# Altium schematic symbol library IC-DRIVERS.SchLib: 14 symbols
Pins are listed as number, name and electrical type; pins without a type are passive.

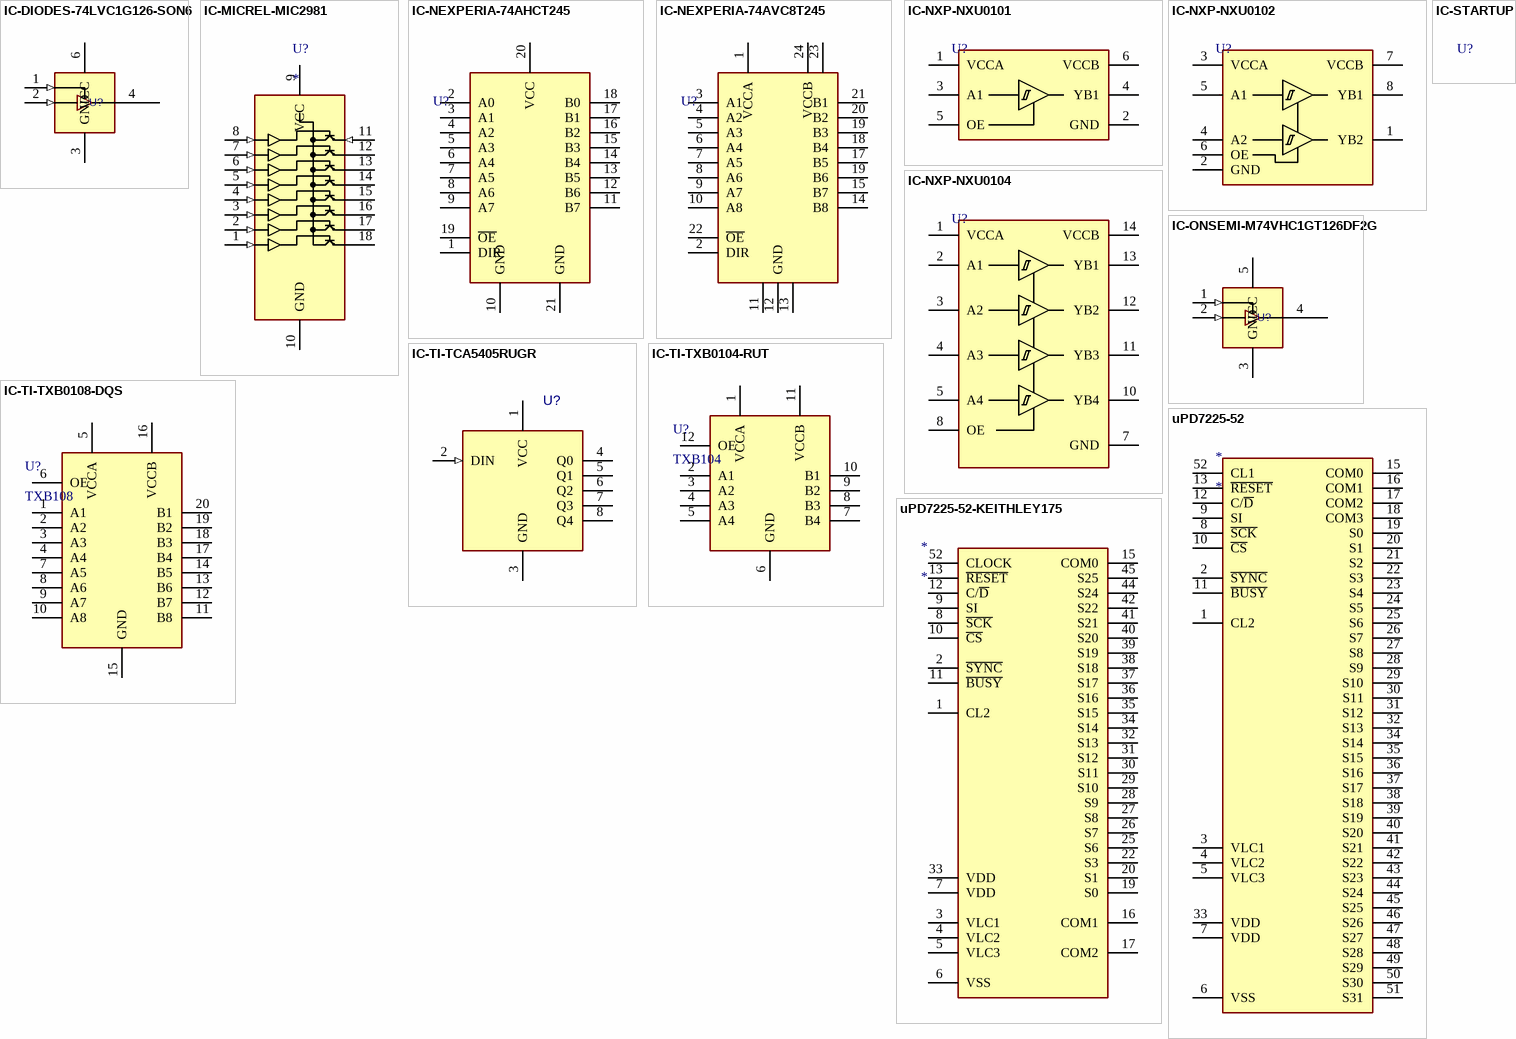
[diagram p0: symbols IC-DIODES-74LVC1G126-SON6 to uPD7225-52-KEITHLEY175]

## IC-DIODES-74LVC1G126-SON6
designator U?, comment 74LVC1G126  (value not drawn)
MPN: C163712; Footprint: Package_TO_SOT_SMD:SOT-23-5
footprint SOT-23-5
pins: 1 (in), 2 (in), 3 GND (power), 4 (hiz), 6 VCC (power)

## IC-MICREL-MIC2981
designator U?
OCTAL HIGH SIDE DRIVER
pins: 1 ~{OE} (in), 2 D0 (in), 3 D1 (in), 4 D2 (in), 5 D3 (in), 6 D4 (in), 7 D5 (in), 8 D6 (in), 9 VCC, 10 GND, 11 LE (in), 12 Q7 (hiz), 13 Q6 (hiz), 14 Q5 (hiz), 15 Q4 (hiz), 16 Q3 (hiz), 17 Q2 (hiz), 18 Q1 (hiz)

## IC-NEXPERIA-74AHCT245
designator U?, comment 74AHCT245  (value not drawn)
IC,BUS BUFFER,74245, QQFN420X250; Manufacturer 1: NEXPERIA; Manufacturer Part Number 1: 74AHCT245BQ,115; LCSC: C554611
footprint QFN50P450X250-20TH300X100
pins: 1 DIR, 2 A0, 3 A1, 4 A2, 5 A3, 6 A4, 7 A5, 8 A6, 9 A7, 10 GND, 11 B7, 12 B6, 13 B5, 14 B4, 15 B3, 16 B2, 17 B1, 18 B0, 19 ~{OE}, 20 VCC, 21 GND

## IC-NEXPERIA-74AVC8T245
designator U?  (value not drawn)
pins: 1 VCCA, 2 DIR, 3 A1, 4 A2, 5 A3, 6 A4, 7 A5, 8 A6, 9 A7, 10 A8, 11 GND, 12 GND, 13 GND, 14 B8, 15 B7, 17 B5, 18 B4, 19 B6, 19 B3, 20 B2, 21 B1, 22 ~{OE}, 23 VCCB, 24 VCCB

## IC-NXP-NXU0101
designator U?  (value not drawn)
pins: 1 VCCA, 2 GND, 3 A1, 4 YB1, 5 OE, 6 VCCB

## IC-NXP-NXU0102
designator U?  (value not drawn)
pins: 1 YB2, 2 GND, 3 VCCA, 4 A2, 5 A1, 6 OE, 7 VCCB, 8 YB1

## IC-NXP-NXU0104
designator U?  (value not drawn)
pins: 1 VCCA, 2 A1, 3 A2, 4 A3, 5 A4, 7 GND, 8 OE, 10 YB4, 11 YB3, 12 YB2, 13 YB1, 14 VCCB

## IC-ONSEMI-M74VHC1GT126DF2G
designator U?, comment 74LVC1GT126  (value not drawn)
IC,BUFFER WITH OE, ONSEMI M74VHC1GT126DF2G; LCSC: C233496; Manufacturer 1: ONSEMI; Manufacturer Part Number 1: M74VHC1GT126DF2G
footprint SOT353 (SOT353 SC70-5)
pins: 1 (in), 2 (in), 3 GND (power), 4 (hiz), 5 VCC (power)

## IC-STARTUP
designator U?, comment IC STARTUP OBJECT  (value not drawn)
LCSC: *; DIGIKEY: *; MOUSER: *; Manufacturer 1: *; Manufacturer Part Number 1: *; LOCATION: *

## IC-TI-TCA5405RUGR
designator U?, comment TCA5405  (value not drawn)
IC,IO EXPANDER, SINGLE WIRE, 5 OUTPUTS, TI TCA5405; Manufacturer Part Number 1: TCA5405RUGR; LCSC: C2674123; Manufacturer 1: TI
footprint PQFN50P150X150X40-8N (PQFN, 8-Leads, Body 1.50x1.50mm, Pitch 0.50mm, IPC Medium Density)
pins: 1 VCC (power), 2 DIN (in), 3 GND (power), 4 Q0, 5 Q1, 6 Q2, 7 Q3, 8 Q4

## IC-TI-TXB0104-RUT
designator U?, comment TXB104
IC,LEVEL SHIFTER,4CH,DUAL SUPPLY, TI TXB104; Manufacturer Part Number 1: TXB0104RUTR; LCSC: C105266; Manufacturer 1: TI
footprint FOOTPRINT-TI-RUT (R-PUQFN-N12, TI RUT)
pins: 1 VCCA, 2 A1, 3 A2, 4 A3, 5 A4, 6 GND, 7 B4, 8 B3, 9 B2, 10 B1, 11 VCCB, 12 OE

## IC-TI-TXB0108-DQS
designator U?, comment TXB108
IC,LEVEL SHIFTER,8CH,DUAL SUPPLY, TI TXB108; Manufacturer Part Number 1: TXB0108DQSR; LCSC: C427057; Manufacturer 1: TI
footprint SON40P200X55-20N (SON, 20-Leads, Body 4.00x2.00mm, Pitch 0.40mm, IPC Medium Density)
pins: 1 A1, 2 A2, 3 A3, 4 A4, 5 VCCA, 6 OE, 7 A5, 8 A6, 9 A7, 10 A8, 11 B8, 12 B7, 13 B6, 14 B5, 15 GND, 16 VCCB, 17 B4, 18 B3, 19 B2, 20 B1

## uPD7225-52
designator *
pins: 1 CL2, 2 ~{SYNC}, 3 VLC1, 4 VLC2, 5 VLC3, 6 VSS, 7 VDD, 8 ~{SCK}, 9 SI, 10 ~{CS}, 11 ~{BUSY}, 12 C/~{D}, 13 ~{RESET}, 15 COM0, 16 COM1, 17 COM2, 18 COM3, 19 S0, 20 S1, 21 S2, 22 S3, 23 S4, 24 S5, 25 S6, 26 S7, 27 S8, 28 S9, 29 S10, 30 S11, 31 S12, 32 S13, 33 VDD, 34 S14, 35 S15, 36 S16, 37 S17, 38 S18, 39 S19, 40 S20, 41 S21, 42 S22, 43 S23, 44 S24, 45 S25, 46 S26, 47 S27, 48 S28, 49 S29, 50 S30, 51 S31, 52 CL1

## uPD7225-52-KEITHLEY175
designator *
pins: 1 CL2, 2 ~{SYNC}, 3 VLC1, 4 VLC2, 5 VLC3, 6 VSS, 7 VDD, 8 ~{SCK}, 9 SI, 10 ~{CS}, 11 ~{BUSY}, 12 C/~{D}, 13 ~{RESET}, 15 COM0, 16 COM1, 17 COM2, 19 S0, 20 S1, 22 S3, 25 S6, 26 S7, 27 S8, 28 S9, 29 S10, 30 S11, 31 S12, 32 S13, 33 VDD, 34 S14, 35 S15, 36 S16, 37 S17, 38 S18, 39 S19, 40 S20, 41 S21, 42 S22, 44 S24, 45 S25, 52 CLOCK